# EAGLE library part MOLEX_67492 (library sata)
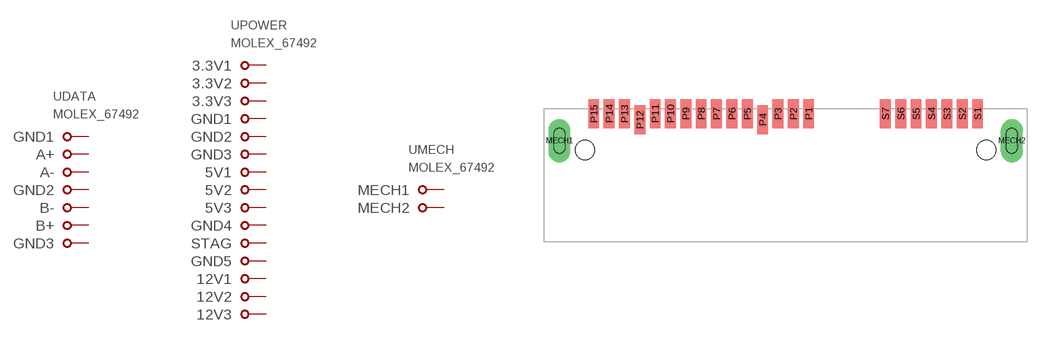
[diagram p2: symbol with the pads of MOLEX_67492; footprint MOLEX_67492]

Designator prefix -; gates DATA=SATA_DATA POWER=SATA_POWER_15 MECH=SATA_MECH_2

## MOLEX_67492  [MOLEX_67492]
MECH1  MECH:MECH1
MECH2  MECH:MECH2
P1  POWER:3.3V1
P2  POWER:3.3V2
P3  POWER:3.3V3
P4  POWER:GND1
P5  POWER:GND2
P6  POWER:GND3
P7  POWER:5V1
P8  POWER:5V2
P9  POWER:5V3
P10  POWER:GND4
P11  POWER:STAG
P12  POWER:GND5
P13  POWER:12V1
P14  POWER:12V2
P15  POWER:12V3
S1  DATA:GND1
S2  DATA:A+
S3  DATA:A-
S4  DATA:GND2
S5  DATA:B-
S6  DATA:B+
S7  DATA:GND3

## Footprint MOLEX_67492 (pad centres in mm)
drill 1 pad 1.8 long: MECH1 -18.71,2.84; MECH2 18.71,2.84
smd 0.9 x 2.4: P1 1.905,5.08; P2 0.635,5.08; P3 -0.635,5.08; P4 -1.905,4.58; P5 -3.175,5.08; P6 -4.445,5.08; P7 -5.715,5.08; P8 -6.985,5.08; P9 -8.255,5.08; P10 -9.525,5.08; P11 -10.795,5.08; P12 -12.065,4.58; P13 -13.335,5.08; P14 -14.605,5.08; P15 -15.875,5.08; S1 15.875,5.08; S2 14.605,5.08; S3 13.335,5.08; S4 12.065,5.08; S5 10.795,5.08; S6 9.525,5.08; S7 8.255,5.08
hole 1.6 at 16.595,2.08
hole 1.6 at -16.595,2.08